# EAGLE library part 620310124022 (library Wire-to-Board (rev18a))
WR-WTB 2.00mm SMT Male Vertical Shrouded Header, 10 Pins=>Code : Con_WTB_2.00_PCB_SMT_620310124022 <http://katalog.we-online.de/media/thumbs2/eican/thb_Con_WTB_2.00_PCB_SMT_6203xx124022_pf2.jpg> Details see: http://katalog.we-online.de/en/em/WTB_2_00_SMT_MALE_VERTICAL_SHROUDED_HEADER_6203XX124022 Created 2014-06-05, Karrer Zheng 2014 (C) Würth Elektronik
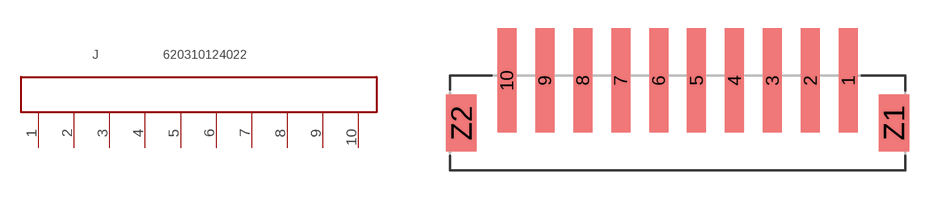
[diagram p39: symbol with the pads of 620310124022; footprint 620310124022]

Designator prefix J

## 620310124022  [620310124022]
1  10  pas
2  9  pas
3  8  pas
4  7  pas
5  6  pas
6  5  pas
7  4  pas
8  3  pas
9  2  pas
10  1  pas

## Footprint 620310124022 (pad centres in mm)
WR-WTB 2.00mm SMT Male Vertical Shrouded Header, 10 Pins
smd 1 x 5.5: 1 9,0; 2 7,0; 3 5,0; 4 3,0; 5 1,0; 6 -1,0; 7 -3,0; 8 -5,0; 9 -7,0; 10 -9,0
smd 1.6 x 3: Z1 11.4,-2.25; Z2 -11.4,-2.25